# EAGLE library part M5STAMP_PICO (library M5Stamp_Pico)
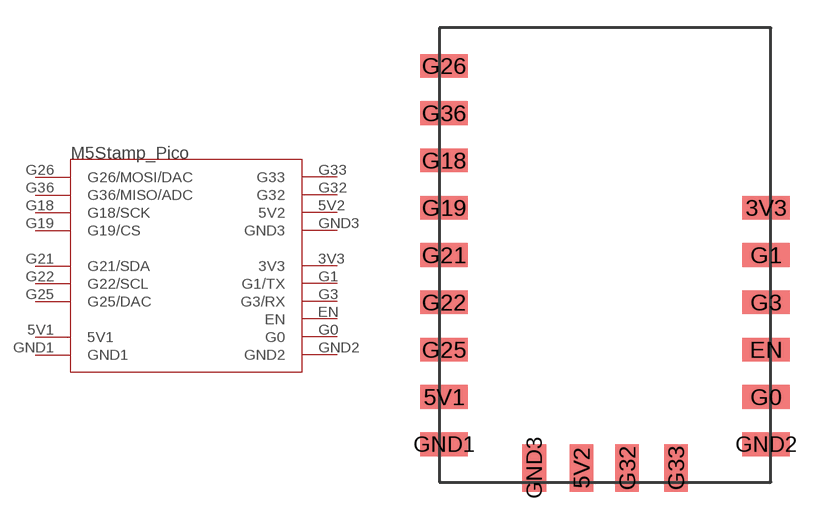
[diagram p0: symbol with the pads of M5STAMP_PICO; footprint M5STAMP_PICO]

Designator prefix -

## M5STAMP_PICO  [M5STAMP_PICO]
3V3  3V3
5V1  5V1
5V2  5V2
EN  EN
G0  G0
G1  G1/TX
G3  G3/RX
G18  G18/SCK
G19  G19/CS
G21  G21/SDA
G22  G22/SCL
G25  G25/DAC
G26  G26/MOSI/DAC
G32  G32
G33  G33
G36  G36/MISO/ADC
GND1  GND1
GND2  GND2
GND3  GND3

## Footprint M5STAMP_PICO (pad centres in mm)
smd 2.54 x 1.27: 3V3 8.636,3.81; 5V1 -8.636,-6.35; EN 8.636,-3.81; G0 8.636,-6.35; G1 8.636,1.27; G3 8.636,-1.27; G18 -8.636,6.35; G19 -8.636,3.81; G21 -8.636,1.27; G22 -8.636,-1.27; G25 -8.636,-3.81; G26 -8.636,11.43; G36 -8.636,8.89; GND1 -8.636,-8.89; GND2 8.636,-8.89
smd 1.27 x 2.54: 5V2 -1.27,-10.16; G32 1.18,-10.16; G33 3.8,-10.16; GND3 -3.8,-10.16